# Altium schematic symbol library testTrans.SCHLIB: 14 symbols
Pins are listed as number, name and electrical type; pins without a type are passive.

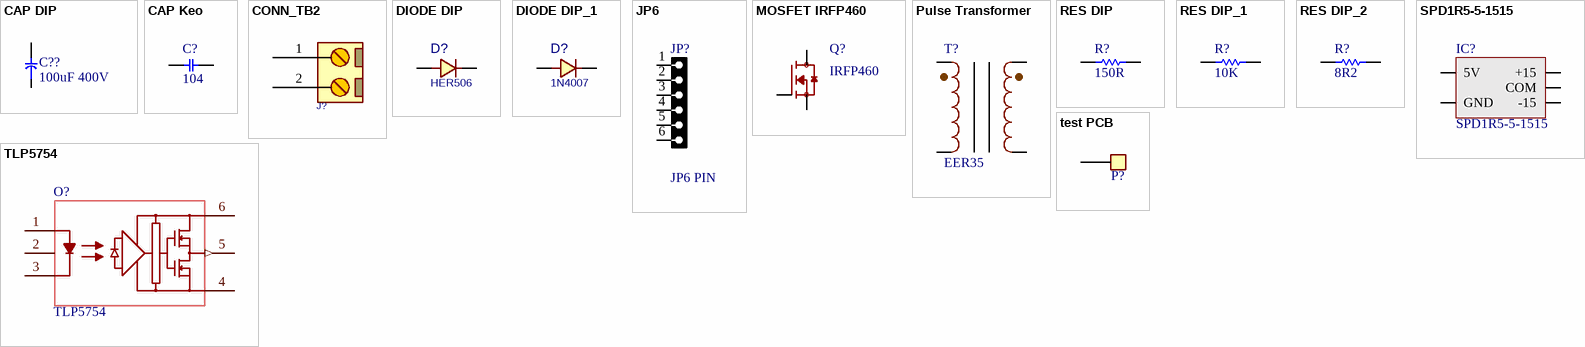
[diagram p0: symbols CAP DIP to TLP5754]

## CAP DIP
designator C??, comment 100uF 400V
CAP DIP
footprint CAP DxL 8x13.5
footprint CAP DxL 6.3x13 (1uF 400V)
footprint CAP DxL 25x45 (1000uF 200V)
footprint CAP DxL 30x45 (470uF 450V)
footprint CAP DxL 18x30 (100uF 400V)
pins: 1, 2

## CAP Keo
designator C?, comment 104
CAP Keo; Value: 0,047uF; Copyright: VanDungEvn
footprint CN3 (Cap np W 0.3)
footprint CAP 14D471K 470V (Footprint not found)
footprint CAP CBB22 100nF/630V
footprint R-2w (R-2W)
footprint R-1W
footprint CAP P=15MM (Footprint not found)
footprint CAP 104 (Capacitor, Electrolytic, Radial; Body 5 x 11 mm (Dia.xH typ); Pin Spacing 2 mm (typ))
pins: 1, 2

## CONN_TB2
designator J?  (value not drawn)
CONN, TERMINAL BLOCK, 5.08mm pitch; VALUE: CONN_TB2
footprint TBG_2 (Terminal Block Green)
footprint TBB_2 (Terminal Block Blue)
pins: 1, 2

## DIODE DIP
designator D?  value HER506  (hidden comment: DIODE DIP)
MANF: Kingtronics; DESC: DESCRIPTION; PARAM: 1000V VRRM; PARAM2: 1A; MANF_P#: M7; ASSEMBLY: ASSEMBLY; PRICE: PRICE
footprint DIODE DO-201AD
pins: 1, 2

## DIODE DIP_1
designator D?, comment value 1N4007  (hidden comment: DIODE DIP)
MANF: Kingtronics; DESC: DESCRIPTION; PARAM: 1000V VRRM; PARAM2: 1A; MANF_P#: M7; ASSEMBLY: ASSEMBLY; PRICE: PRICE
footprint DIODE DO-201AD
pins: 1, 2

## JP6
designator JP?, comment JP6 PIN
Value: JP7
footprint JP_6PIN
pins: 1, 2, 3, 4, 5, 6

## MOSFET IRFP460
designator Q?, comment IRFP460
MOSFET N-Channel 500 V 20A (Tc) 280W (Tc) Through Hole TO-247AC; MF: Vishay Siliconix; SnapEDA_Link: https://www.snapeda.com/parts/IRFP460/Vishay+Siliconix/view-part/?ref=snap; Package: TO-247 Vishay Siliconix; MP: IRFP460; Check_prices: https://www.snapeda.com/parts/IRFP460/Vishay+Siliconix/view-part/?ref=eda; Purchase-URL: https://pricing.snapeda.com/search/part/IRFP460/?ref=eda; Price: None; Value: *; Availability: In Stock
footprint TO-247
footprint TO-247 - HS342512 (Nhôm T?n Nhi?t 34x25x12 Hàn PCB)
footprint TO-247 - 252416 (Nhôm T?n Nhi?t 25x24x16 Hàn PCB)
pins: 1 G, 2 D, 3 S

## Pulse Transformer
designator T?, comment EER35
Pulse Transformer
footprint Pulse Transformer
pins: 2, 3, 9, 13

## RES DIP
designator R?, comment 150R
RES DIP; Value: R1/4W - 1K
footprint R-2W
footprint R1/4W3 (R 1/4W, 2 Pin, 350mil)
footprint R1/4W4 (R 1/4W, 2 Pin, 400mil)
footprint R1/4W7 (R 1/4W, 2 Pin, 600mil)
footprint R1/8W (R 1/8W, 2 pin, 300mil)
footprint R/1W (R 1/2W, 2 pin, 300mil)
footprint R-1W
footprint res-2w (R2W, 2 pin, 700mil)
pins: 1, 2

## RES DIP_1
designator R?, comment 10K
RES DIP; Value: R1/4W - 1K
footprint R-2W
footprint R1/4W3 (R 1/4W, 2 Pin, 350mil)
footprint R1/4W4 (R 1/4W, 2 Pin, 400mil)
footprint R1/4W7 (R 1/4W, 2 Pin, 600mil)
footprint R1/8W (R 1/8W, 2 pin, 300mil)
footprint R/1W (R 1/2W, 2 pin, 300mil)
footprint R-1W
footprint res-2w (R2W, 2 pin, 700mil)
pins: 1, 2

## RES DIP_2
designator R?, comment 8R2
RES DIP; Value: R1/4W - 1K
footprint R-2W
footprint R1/4W3 (R 1/4W, 2 Pin, 350mil)
footprint R1/4W4 (R 1/4W, 2 Pin, 400mil)
footprint R1/4W7 (R 1/4W, 2 Pin, 600mil)
footprint R1/8W (R 1/8W, 2 pin, 300mil)
footprint R/1W (R 1/2W, 2 pin, 300mil)
footprint R-1W
footprint res-2w (R2W, 2 pin, 700mil)
pins: 1, 2

## SPD1R5-5-1515
designator IC?
Power supply Driver SPD1R5-5-1515 / Efficiency 80% / Input 0.381A / Output 50mA
footprint SPS1R5
pins: 1 5V, 2 GND, 3 -15, 4 COM, 5 +15

## test PCB
designator P?  (value not drawn)
testpin
footprint Tp_black_1p
footprint Tp_blue_1p
footprint tp_red_1p
footprint tp_white_1p
footprint tp_yellow_1p
pins: 1 (power)

## TLP5754
designator O?
MF: Toshiba Semiconductor; MP: TLP250; Purchase-URL: https://pricing.snapeda.com/search/part/TLP250/?ref=eda; SnapEDA_Link: https://www.snapeda.com/parts/TLP250/Toshiba+Semiconductor+and+Storage/view-part/?ref=snap; Value: *; Package: DIP-8 Toshiba; Availability: In Stock; Price: None; Check_prices: https://www.snapeda.com/parts/TLP250/Toshiba+Semiconductor+and+Storage/view-part/?ref=eda
footprint TLP5754
pins: 1 NC, 2 ANODE, 3 KATHODE, 4 GND (power), 5 VO (out), 6 VCC (power)